# Altium footprint library SDM2U40CSP-7B.PcbLib: 1 footprints
Each footprint in its own frame and in the unit in brackets; x right, y up, seen from the top. Pads: shape width x height; smd on the part's side, far side on the other; paste and mask are expansions set on the pad; w line width, h text height; cw(c..) or ccw(c..) is an arc to the next point about the centre after c.
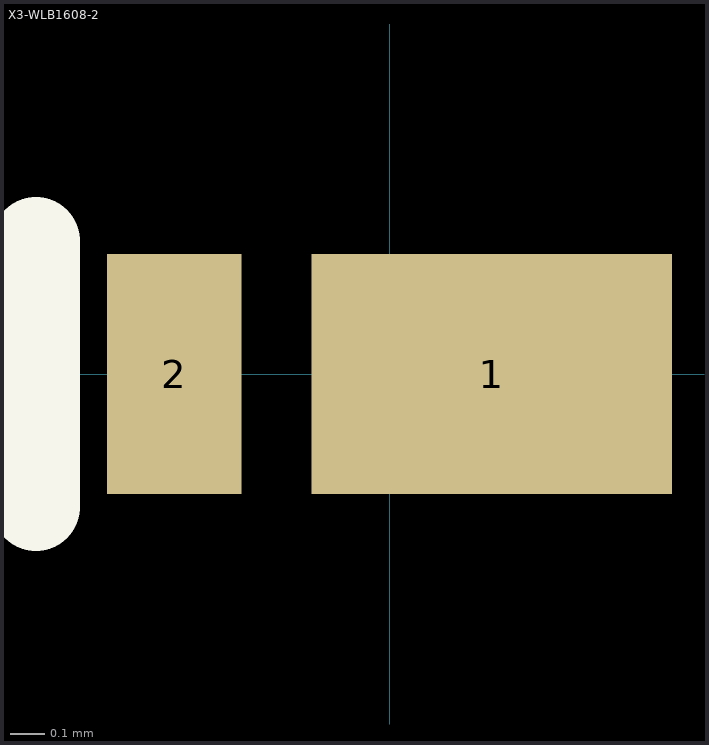
[diagram p0: the footprint, top view; thin cyan lines are the x and y axes]

## X3-WLB1608-2 [mm]
pads (2):
  rect 1.035x0.69 smd: 1(0.293,0)
  rect 0.385x0.69 smd: 2(-0.619,0)
Top Overlay:
  lines w0.254: -1.016,-0.381 -1.016,0.381
3D body: height 0.3, standoff 0, extent -0.815,-0.415 0.815,0.415